# EAGLE library part SN74LVC4245APWG4 (library SamacSys_Parts)
Bus Transceivers Octal Bus Trncvr & 3.3-5V W/3-St Otpt Source: Datasheet <https://www.ti.com/lit/ds/symlink/sn74lvc4245a.pdf?ts=1619676318735&ref_url=https%3A%2F%2Fwww.ti.com%2Fsitesearch%2Fdocs%2Funiversalsearch.tsp%3FsearchTerm%3DSN74LVC4245APWG4>
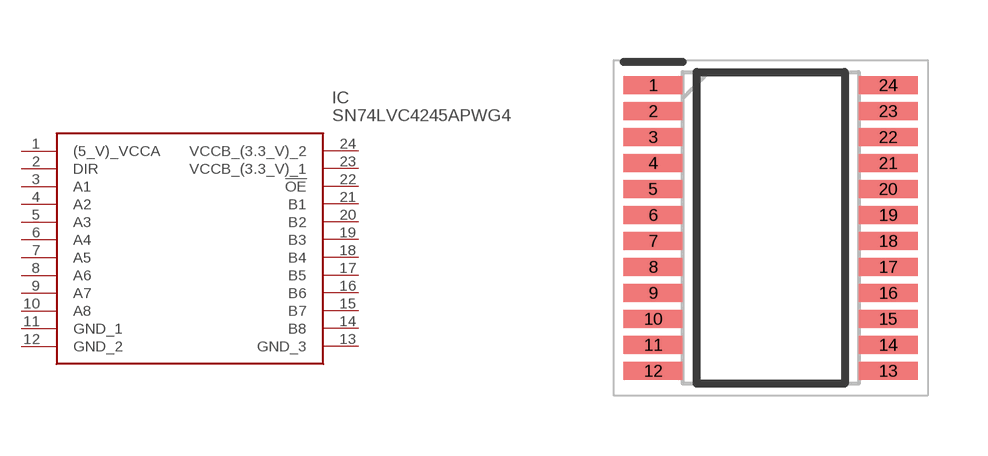
[diagram p223: symbol with the pads of SOP65P640X120-24N; footprint SOP65P640X120-24N]

Designator prefix IC

## SN74LVC4245APWG4 (DESCRIPTION: Bus Transceivers Octal Bus Trncvr & 3.3-5V W/3-St Otpt; HEIGHT: 1.2mm; MANUFACTURER_NAME: Texas Instruments; MANUFACTURER_PART_NUMBER: SN74LVC4245APWG4; MOUSER_PART_NUMBER: 595-SN74LVC4245APWG4; MOUSER_PRICE-STOCK: https://www.mouser.co.uk/ProductDetail/Texas-Instruments/SN74LVC4245APWG4?qs=dT9u2OTAaVUjiCnDZwsQjg%3D%3D)  [SOP65P640X120-24N]
1  (5_V)_VCCA
2  DIR
3  A1
4  A2
5  A3
6  A4
7  A5
8  A6
9  A7
10  A8
11  GND_1
12  GND_2
13  GND_3
14  B8
15  B7
16  B6
17  B5
18  B4
19  B3
20  B2
21  B1
22  !OE
23  VCCB_(3.3_V)_1
24  VCCB_(3.3_V)_2

## Footprint SOP65P640X120-24N (pad centres in mm)
PW (R-PDSO-G24)
smd 1.475 x 0.45: 1 -2.938,3.575; 2 -2.938,2.925; 3 -2.938,2.275; 4 -2.938,1.625; 5 -2.938,0.975; 6 -2.938,0.325; 7 -2.938,-0.325; 8 -2.938,-0.975; 9 -2.938,-1.625; 10 -2.938,-2.275; 11 -2.938,-2.925; 12 -2.938,-3.575; 13 2.938,-3.575; 14 2.938,-2.925; 15 2.938,-2.275; 16 2.938,-1.625; 17 2.938,-0.975; 18 2.938,-0.325; 19 2.938,0.325; 20 2.938,0.975; 21 2.938,1.625; 22 2.938,2.275; 23 2.938,2.925; 24 2.938,3.575